# EAGLE library part PIC32MM0016GPL020 (library PIC32MM0016GPL020)
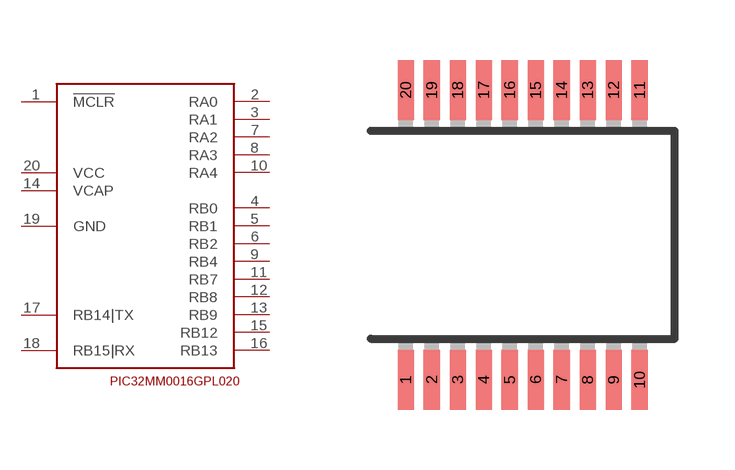
[diagram p0: symbol with the pads of SSOP20; footprint SSOP20]

Designator prefix -

## PIC32MM0016GPL020  [SSOP20]
1  !MCLR
2  RA0
3  RA1
4  RB0
5  RB1
6  RB2
7  RA2
8  RA3
9  RB4
10  RA4
11  RB7
12  RB8
13  RB9
14  VCAP
15  RB12
16  RB13
17  RB14|TX
18  RB15|RX
19  GND
20  VCC

## Footprint SSOP20 (pad centres in mm)
Shrink Small Outline Package package type SS
smd 0.4 x 1.5: 1 -2.925,-3.625; 2 -2.275,-3.625; 3 -1.625,-3.625; 4 -0.975,-3.625; 5 -0.325,-3.625; 6 0.325,-3.625; 7 0.975,-3.625; 8 1.625,-3.625; 9 2.275,-3.625; 10 2.925,-3.625; 11 2.925,3.625; 12 2.275,3.625; 13 1.625,3.625; 14 0.975,3.625; 15 0.325,3.625; 16 -0.325,3.625; 17 -0.975,3.625; 18 -1.625,3.625; 19 -2.275,3.625; 20 -2.925,3.625